# Altium schematic symbol library MUR840.SchLib: 1 symbol
Pins are listed as number, name and electrical type; pins without a type are passive.

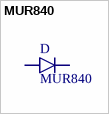
[diagram p0: symbol MUR840]

## MUR840
designator D
footprint POWER_DIODE
pins: A 1, K 1